# EAGLE library part 1X07_35MM_SCREW (library Parts)
MKDS 1/ 7-3,5 Printklemme Nennstrom: 10 A Bemessungsspannung: 160 V Raster: 3,5 mm Polzahl: 7 Montageart: Löten Anschlussart: Schraubanschluss Anschlussrichtung vom Leiter zur Platine: 0° Source: http://eshop.phoenixcontact.com .. 1751293.pdf
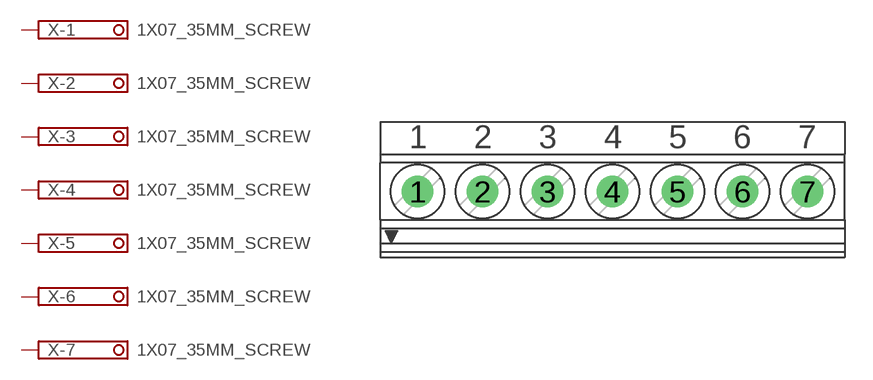
[diagram p5: symbol with the pads of 1751293; footprint 1751293]

Designator prefix X; gates -1=SCHRAUBKLEMME -2=SCHRAUBKLEMME -3=SCHRAUBKLEMME -4=SCHRAUBKLEMME -5=SCHRAUBKLEMME -6=SCHRAUBKLEMME -7=SCHRAUBKLEMME

## 1X07_35MM_SCREW (OC_FARNELL: unknown; OC_NEWARK: unknown)  [1751293]
1  -1:K  pas
2  -2:K  pas
3  -3:K  pas
4  -4:K  pas
5  -5:K  pas
6  -6:K  pas
7  -7:K  pas

## Footprint 1751293 (pad centres in mm)
MKDS 1/ 7-3,5 Printklemme Nennstrom: 10 A Bemessungsspannung: 160 V Raster: 3,5 mm Polzahl: 7 Montageart: Löten Anschlussart: Schraubanschluss Anschlussrichtung vom Leiter zur Platine: 0° Source: http://eshop.phoenixcontact.com .. 1751293.pdf
drill 1.1 pad 1.7: 1 -10.5,-0.1; 2 -7,-0.1; 3 -3.5,-0.1; 4 0,-0.1; 5 3.5,-0.1; 6 7,-0.1; 7 10.5,-0.1